# Altium schematic symbol library Schlib_Sword.SchLib: 68 symbols
Pins are listed as number, name and electrical type; pins without a type are passive.

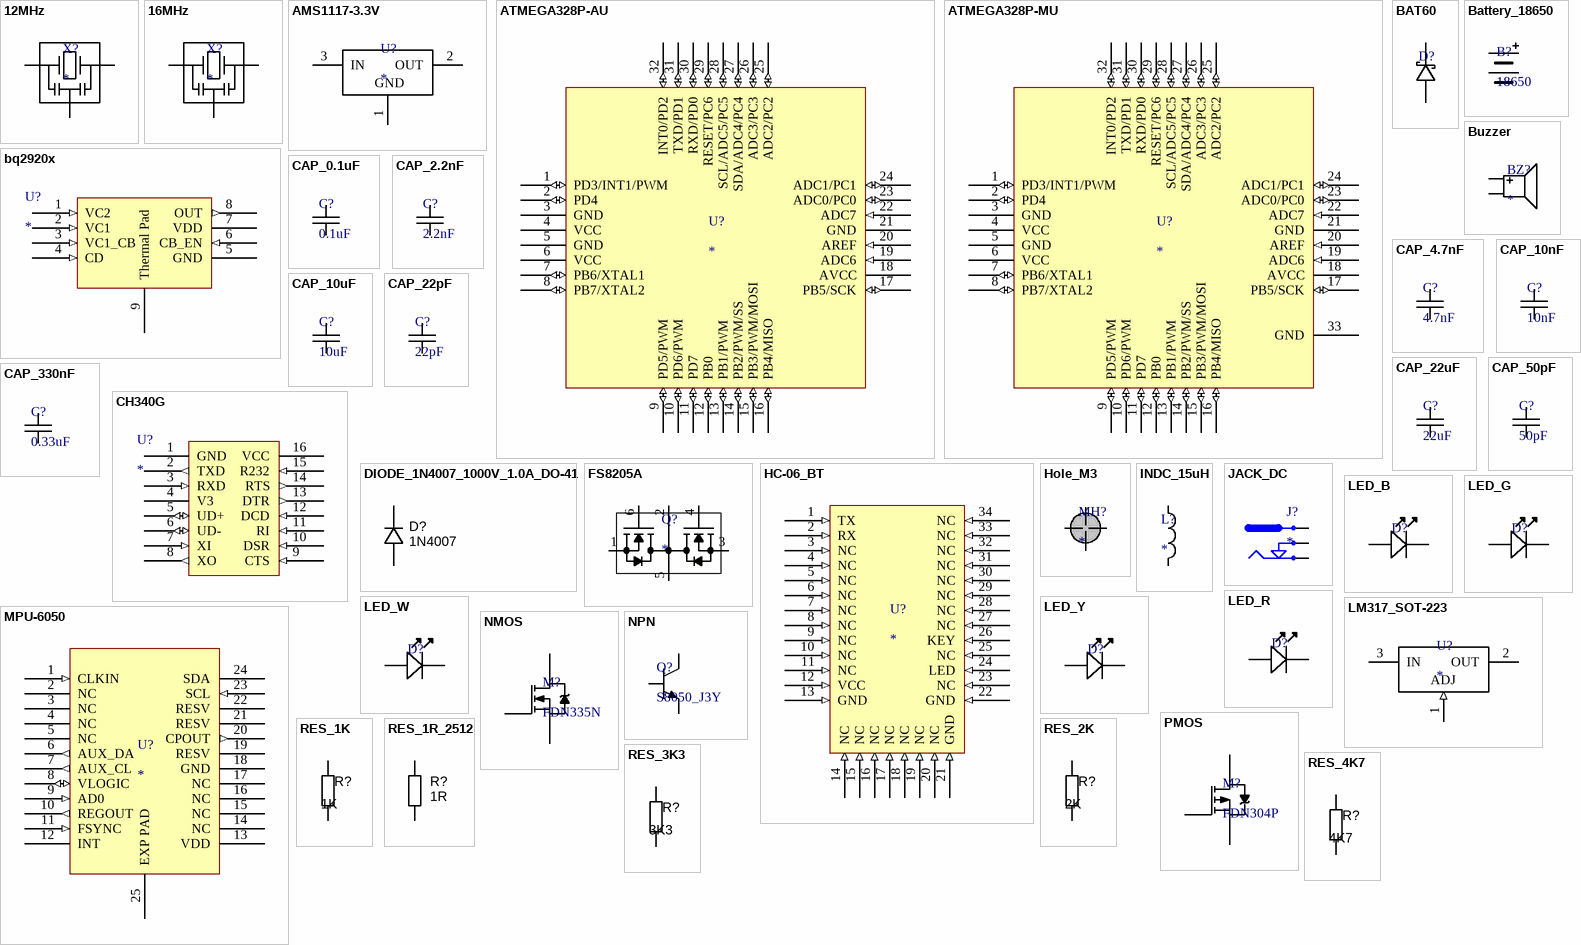
[diagram p0: symbols 12MHz to RES_4K7]

## 12MHz
designator X?
Crystal Oscillator
footprint XTAL_3.2x1.6
pins: 1 IN, 2 GND, 3 OUT

## 16MHz
designator X?
Crystal Oscillator
footprint XTAL_3.2x1.6
pins: 1 IN, 2 GND, 3 OUT

## AMS1117-3.3V
designator U?
footprint SOT223 (SOT223 /SC-73)
pins: 1 ADJ (power), 2 OUT (power), 3 IN (power)
text: GND

## ATMEGA328P-AU
designator U?
footprint ATMEGA328P-AU
pins: 1 PD3/INT1/PWM (io), 2 PD4 (io), 3 GND (power), 4 VCC (power), 5 GND (power), 6 VCC (power), 7 PB6/XTAL1 (io), 8 PB7/XTAL2 (io), 9 PD5/PWM (io), 10 PD6/PWM (io), 11 PD7 (io), 12 PB0 (io), 13 PB1/PWM (io), 14 PB2/PWM/SS (io), 15 PB3/PWM/MOSI (io), 16 PB4/MISO (io), 17 PB5/SCK (io), 18 AVCC (power), 19 ADC6 (in), 20 AREF (in), 21 GND (power), 22 ADC7 (in), 23 ADC0/PC0 (io), 24 ADC1/PC1 (io), 25 ADC2/PC2 (io), 26 ADC3/PC3 (io), 27 SDA/ADC4/PC4 (io), 28 SCL/ADC5/PC5 (io), 29 RESET/PC6 (io), 30 RXD/PD0 (io), 31 TXD/PD1 (io), 32 INT0/PD2 (io)

## ATMEGA328P-MU
designator U?
footprint ATMEGA328P-MU_32M1-A
pins: 1 PD3/INT1/PWM (io), 2 PD4 (io), 3 GND (power), 4 VCC (power), 5 GND (power), 6 VCC (power), 7 PB6/XTAL1 (io), 8 PB7/XTAL2 (io), 9 PD5/PWM (io), 10 PD6/PWM (io), 11 PD7 (io), 12 PB0 (io), 13 PB1/PWM (io), 14 PB2/PWM/SS (io), 15 PB3/PWM/MOSI (io), 16 PB4/MISO (io), 17 PB5/SCK (io), 18 AVCC (power), 19 ADC6 (in), 20 AREF (in), 21 GND (power), 22 ADC7 (in), 23 ADC0/PC0 (io), 24 ADC1/PC1 (io), 25 ADC2/PC2 (io), 26 ADC3/PC3 (io), 27 SDA/ADC4/PC4 (io), 28 SCL/ADC5/PC5 (io), 29 RESET/PC6 (io), 30 RXD/PD0 (io), 31 TXD/PD1 (io), 32 INT0/PD2 (io), 33 GND (power)

## BAT60
designator D?
Schottky Diode 3A, Vf~0.24V, Vr=10V
footprint SOD323 (SOD-323; 2 Leads; Body 1.8 x 1.35 mm, (LxW))
pins: A, K

## Battery_18650
designator B?, comment 18650

## bq2920x
designator U?
Automatic Cell Balance 2S Li-Ion Battery
footprint bq2920x
pins: 1 VC2 (in) "Sense voltage input for top cell", 2 VC1 (in) "Sense voltage input for bottom cell", 3 VC1_CB (in) "Cell balance input for bottom cell", 4 CD (in) "Connection to external capacitor for programmable delay time", 5 GND (power) "Ground pin", 6 CB_EN (in) "Cell balance enable", 7 VDD (power) "Power supply", 8 OUT (out) "Output", 9 Thermal Pad (power) "GND pin to be connected to the PWRPAD on the printed circuit board for proper operation"

## Buzzer
designator BZ?
Buzzer passive 5 VAC
footprint Buzzer
pins: 1 Positive, 2 Negative

## CAP_0.1uF
designator C?, comment 0.1uF
SMD 0805
footprint CAP_0805
pins: 1, 2

## CAP_2.2nF
designator C?, comment 2.2nF
SMD 0805
footprint CAP_0805
pins: 1, 2

## CAP_4.7nF
designator C?, comment 4.7nF
SMD 0805
footprint CAP_0805
pins: 1, 2

## CAP_10nF
designator C?, comment 10nF
SMD 0805
footprint CAP_0805
pins: 1, 2

## CAP_10uF
designator C?, comment 10uF
SMD 0805/1206
footprint CAP_0805
footprint CAP_1206
pins: 1, 2

## CAP_22pF
designator C?, comment 22pF
SMD 0805
footprint CAP_0805
pins: 1, 2

## CAP_22uF
designator C?, comment 22uF
SMD 1206
footprint CAP_1206
pins: 1, 2

## CAP_50pF
designator C?, comment 50pF
SMD 0805
footprint CAP_0805
pins: 1, 2

## CAP_330nF
designator C?, comment 0.33uF
SMD 0805
footprint CAP_0805
pins: 1, 2

## CH340G
designator U?
footprint CH340G
pins: 1 GND (power) "Ground reference of the chip.", 2 TXD (out) "UART data transmit output", 3 RXD (in) "UART data receive input.", 4 V3 (power) "Internal 3.3V reference fot USB physical layer. Decouple with a 4.7-20nF capacitor when in 5V operation, or tie to VCC when in 3.3V operation", 5 UD+ (io) "USB D+ signal.", 6 UD- (io) "UBS D- signal.", 7 XI (in) "Input of the crystal osctillator. Connect to the crystal resonator and load capacitors.", 8 XO (out) "Output of the crystal osctillator. Connect to the crystal resonator and load capacitors.", 9 CTS (in) "UART flow control signal Clear to Send", 10 DSR (in) "UART flow control signal Data Set Ready.", 11 RI (in) "UART flow control signal Ring In.", 12 DCD (in) "UART flow control signal Data Carrier Detect", 13 DTR (out) "UART flow control signal Data Terminal Ready.", 14 RTS (out) "UART flow control signal Request to Send", 15 R232 (in) "Auxiliary RS232 enable. Active high, internal pull down.", 16 VCC (power) "Supply rail for the chip."

## DIODE_1N4007_1000V_1.0A_DO-41
designator D?, comment 1N4007
Diode 1N4007 1A 1000V THD; Manufacturer 1: Diodes Inc; Manufacturer Part Number 1: 1N4007-T; Ratings: 100V; 1.5A; Diode Type: Standard; Value: Vf = 1.15V @ 1.5A (Max); SCDType: spec; Package / Case: DO-41; Mounting Type: Through Hole
footprint DO-41 (Diode, thru-hole)
pins: A, K

## FS8205A
designator Q?
NMOS, Drain-Connected, Imax 6A
footprint SOT23-6
pins: 1 S1, 2 D1, 3 D2, 4 G2, 5 D2, 6 G1

## HC-06_BT
designator U?
footprint HC-06_BT
pins: 1 TX (in), 2 RX (in), 3 NC (in), 4 NC (in), 5 NC (in), 6 NC (in), 7 NC (in), 8 NC (in), 9 NC (in), 10 NC (in), 11 NC (in), 12 VCC (in), 13 GND (in), 14 NC (in), 15 NC (in), 16 NC (in), 17 NC (in), 18 NC (in), 19 NC (in), 20 NC (in), 21 GND (in), 22 GND (in), 23 NC (in), 24 LED (in), 25 NC (in), 26 KEY (in), 27 NC (in), 28 NC (in), 29 NC (in), 30 NC (in), 31 NC (in), 32 NC (in), 33 NC (in), 34 NC (in)

## Hole_M3
designator MH?
footprint Hole_M3
pins: MH

## INDC_15uH
designator L?
15uH ±20% 4.2A 28.4mΩ SMD,12.5x12.5x6.5mm Power Inductors
footprint IND_15uH
pins: 1, 2

## JACK_DC
designator J?
footprint DC-004
pins: 1, 2, 3

## LED_B
designator D?
SMD_0805 3V
footprint LED_0805
pins: A, K

## LED_G
designator D?
SMD_0805 3V
footprint LED_0805
pins: A, K

## LED_R
designator D?
SMD_0805 2V
footprint LED_0805
pins: A, K

## LED_W
designator D?
SMD_0805 3V
footprint LED_0805
pins: A, K

## LED_Y
designator D?
SMD_0603 2.4V
footprint LED-0603-YELLOW
pins: A, K

## LM317_SOT-223
designator U?
Linear Voltage Regulator
footprint SOT223 (SOT223 /SC-73)
pins: 1 ADJ (in), 2 OUT (power), 3 IN (power)

## MPU-6050
designator U?
footprint MPU-6050
pins: 1 CLKIN (in) "Optional external reference clock input. Connect to GND if unused.", 2 NC "Not internally connected. May be used for PCB trace routing", 3 NC "Not internally connected. May be used for PCB trace routing", 4 NC "Not internally connected. May be used for PCB trace routing", 5 NC "Not internally connected. May be used for PCB trace routing", 6 AUX_DA (out) "I 2C master serial data, for connecting to external sensors", 7 AUX_CL (out) "I 2C Master serial clock, for connecting to external sensors", 8 VLOGIC (io) "Digital I/O supply voltage", 9 AD0 (in) "I 2C Slave Address LSB (AD0)", 10 REGOUT (out) "Regulator filter capacitor connection", 11 FSYNC (in) "Frame synchronization digital input. Connect to GND if unused.", 12 INT (oc) "Interrupt digital output (totem pole or open-drain)", 13 VDD (power) "Power supply voltage and Digital I/O supply voltage", 14 NC "Not internally connected. May be used for PCB trace routing", 15 NC "Not internally connected. May be used for PCB trace routing", 16 NC "Not internally connected. May be used for PCB trace routing", 17 NC "Not internally connected. May be used for PCB trace routing", 18 GND (power) "Power supply ground", 19 RESV "Reserved. Do not connect", 20 CPOUT (out) "Charge pump capacitor connection", 21 RESV "Reserved. Do not connect", 22 RESV "Reserved. Do not connect", 23 SCL (in) "2C serial clock (SCL)", 24 SDA (oc) "I 2C serial data (SDA)", 25 EXP PAD

## NMOS
designator M?, comment FDN335N
footprint SOT23_213
pins: 1 G, 2 S, 3 D

## NPN
designator Q?, comment S8050_J3Y
footprint SOT23_213
pins: 1 B, 2 E, 3 C

## PMOS
designator M?, comment FDN304P
footprint SOT23_213
pins: 1 G, 2 S, 3 D

## RES_1K
designator R?, comment 1K
Resistor SMD, 1206; Value: N/A
footprint RESC3216X70N (Chip Resistor, Body 3.2x1.6mm, EIA 1206, IPC Medium Density)
pins: 1, 2

## RES_1R_2512
designator R?  value 1R  (hidden comment: *)
Resistor SMD 1Ω ±5% 2W ±400ppm/℃ 2512; Ratings: 1W; SCDType: spec; Tolerance: ±5%; Material: Thick Film; Package / Case: 2512 (6332 metric)
footprint RESC6332X70N (Chip Resistor, Body 6.3x3.2mm, 2512, IPC Medium Density)
pins: 1, 2

## RES_2K
designator R?, comment 2K
Resistor SMD, 1206; Value: N/A
footprint RESC3216X70N (Chip Resistor, Body 3.2x1.6mm, EIA 1206, IPC Medium Density)
pins: 1, 2

## RES_3K3
designator R?, comment 3K3
Resistor SMD, 1206; Value: N/A
footprint RESC3216X70N (Chip Resistor, Body 3.2x1.6mm, EIA 1206, IPC Medium Density)
pins: 1, 2

## RES_4K7
designator R?, comment 4K7
Resistor SMD, 1206; Value: N/A
footprint RESC3216X70N (Chip Resistor, Body 3.2x1.6mm, EIA 1206, IPC Medium Density)
pins: 1, 2

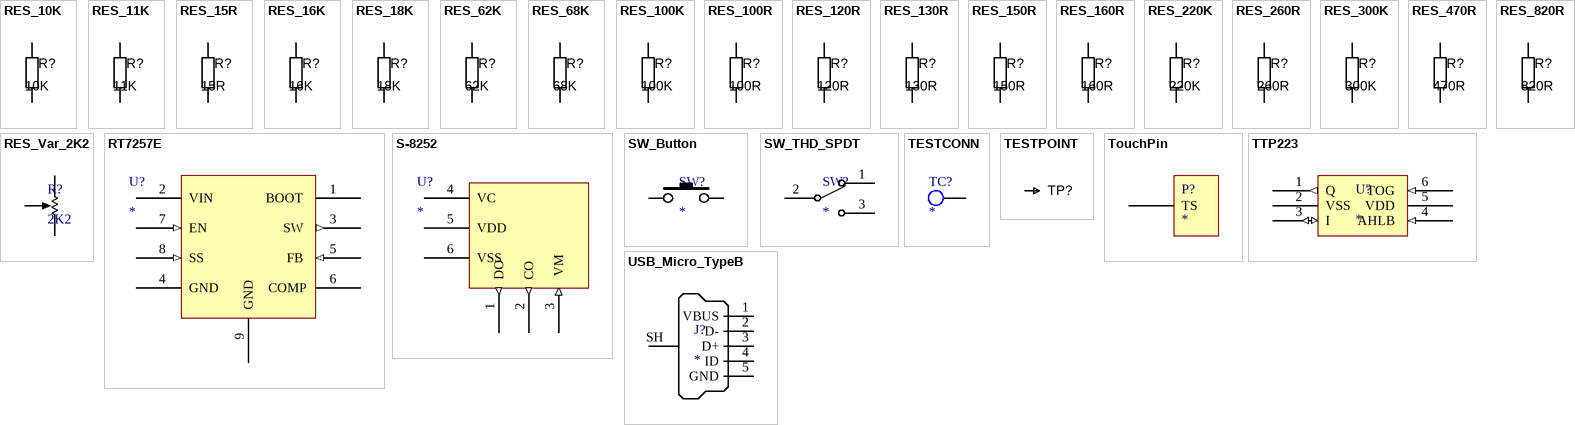
[diagram p1: symbols RES_10K to USB_Micro_TypeB]

## RES_10K
designator R?, comment 10K
Resistor SMD, 1206; Value: N/A
footprint RESC3216X70N (Chip Resistor, Body 3.2x1.6mm, EIA 1206, IPC Medium Density)
pins: 1, 2

## RES_11K
designator R?, comment 11K
Resistor SMD, 1206; Value: N/A
footprint RESC3216X70N (Chip Resistor, Body 3.2x1.6mm, EIA 1206, IPC Medium Density)
pins: 1, 2

## RES_15R
designator R?, comment 15R
Resistor SMD, 1206; Value: N/A
footprint RESC3216X70N (Chip Resistor, Body 3.2x1.6mm, EIA 1206, IPC Medium Density)
pins: 1, 2

## RES_16K
designator R?, comment 16K
Resistor SMD, 1206; Value: N/A
footprint RESC3216X70N (Chip Resistor, Body 3.2x1.6mm, EIA 1206, IPC Medium Density)
pins: 1, 2

## RES_18K
designator R?, comment 18K
Resistor SMD, 1206; Value: N/A
footprint RESC3216X70N (Chip Resistor, Body 3.2x1.6mm, EIA 1206, IPC Medium Density)
pins: 1, 2

## RES_62K
designator R?, comment 62K
Resistor SMD, 1206; Value: N/A
footprint RESC3216X70N (Chip Resistor, Body 3.2x1.6mm, EIA 1206, IPC Medium Density)
pins: 1, 2

## RES_68K
designator R?, comment 68K
Resistor SMD, 1206; Value: N/A
footprint RESC3216X70N (Chip Resistor, Body 3.2x1.6mm, EIA 1206, IPC Medium Density)
pins: 1, 2

## RES_100K
designator R?, comment 100K
Resistor SMD, 1206; Value: N/A
footprint RESC3216X70N (Chip Resistor, Body 3.2x1.6mm, EIA 1206, IPC Medium Density)
pins: 1, 2

## RES_100R
designator R?, comment 100R
Resistor SMD, 1206; Value: N/A
footprint RESC3216X70N (Chip Resistor, Body 3.2x1.6mm, EIA 1206, IPC Medium Density)
pins: 1, 2

## RES_120R
designator R?, comment 120R
Resistor SMD, 1206; Value: N/A
footprint RESC3216X70N (Chip Resistor, Body 3.2x1.6mm, EIA 1206, IPC Medium Density)
pins: 1, 2

## RES_130R
designator R?, comment 130R
Resistor SMD, 1206; Value: N/A
footprint RESC3216X70N (Chip Resistor, Body 3.2x1.6mm, EIA 1206, IPC Medium Density)
pins: 1, 2

## RES_150R
designator R?, comment 150R
Resistor SMD, 1206; Value: N/A
footprint RESC3216X70N (Chip Resistor, Body 3.2x1.6mm, EIA 1206, IPC Medium Density)
pins: 1, 2

## RES_160R
designator R?, comment 160R
Resistor SMD, 1206; Value: N/A
footprint RESC3216X70N (Chip Resistor, Body 3.2x1.6mm, EIA 1206, IPC Medium Density)
pins: 1, 2

## RES_220K
designator R?, comment 220K
Resistor SMD, 1206; Value: N/A
footprint RESC3216X70N (Chip Resistor, Body 3.2x1.6mm, EIA 1206, IPC Medium Density)
pins: 1, 2

## RES_260R
designator R?, comment 260R
Resistor SMD, 1206; Value: N/A
footprint RESC3216X70N (Chip Resistor, Body 3.2x1.6mm, EIA 1206, IPC Medium Density)
pins: 1, 2

## RES_300K
designator R?, comment 300K
Resistor SMD, 1206; Value: N/A
footprint RESC3216X70N (Chip Resistor, Body 3.2x1.6mm, EIA 1206, IPC Medium Density)
pins: 1, 2

## RES_470R
designator R?, comment 470R
Resistor SMD, 1206; Value: N/A
footprint RESC3216X70N (Chip Resistor, Body 3.2x1.6mm, EIA 1206, IPC Medium Density)
pins: 1, 2

## RES_820R
designator R?, comment 820R
Resistor SMD, 1206; Value: N/A
footprint RESC3216X70N (Chip Resistor, Body 3.2x1.6mm, EIA 1206, IPC Medium Density)
pins: 1, 2

## RES_Var_2K2
designator R?, comment 2K2
Resistor SMD Variable
footprint RES_VAR
pins: 1 CCW, 2 WIPER, 3 CW

## RT7257E
designator U?
DC/DC Buck Converter, 3A, 4.5V-17V Vin
footprint RT7257E
pins: 1 BOOT  "Bootstrap for High Side Gate Driver. Connect a 0.1μF or greater ceramic capacitor from BOOT to SW pins.", 2 VIN  (power) "Input Supply Voltage, 4.5V to 17V. Must bypass with a suitably large ceramic capacitor.", 3 SW  (out) "Switch Node. Connect this pin to an external L-C filter.", 4 GND  (power) "Ground.", 5 FB  (in) "Feedback Input. It is used to regulate the output of the converter to a set value via an internal resistive voltage divider.", 6 COMP, 7 EN  (in) "Enable Input. A logic high enables the converter; a logic low forces the RT7257E into shutdown mode reducing the supply current to less than 3μA. Attach this pin to VIN with a 100kΩ pull up resistor for automatic startup.", 8 SS  (in) "Soft-Start Control Input. SS controls the soft-start period. Connect a capacitor from SS to GND to set the soft-start period. A 0.1μF capacitor sets the soft-start period to 13.5ms.", 9 GND  (power) "Ground. The exposed pad must be soldered to a large PCB and connected to GND for maximum power dissipation."

## S-8252
designator U?
Battery protection IC for 2S battery pack
footprint SOT23-6
pins: 1 DO  (out) "Connection pin of discharge control FET gate (CMOS output)", 2 CO  (out) "Connection pin of charge control FET gate (CMOS output)", 3  VM  (in) "Voltage detection pin between VM pin and VSS pin (Overcurrent / charger detection pin)", 4 VC  (power) "Connection pin for negative voltage of battery 1 and connection pin for positive voltage of battery 2", 5 VDD  (power) "Connection pin for positive power supply input and connection pin for positive voltage of battery 1", 6 VSS  (power) "Connection pin for negative power supply input and connection pin for negative voltage of battery 2"

## SW_Button
designator SW?
footprint Button_4x4x1.5
pins: 1, 2

## SW_THD_SPDT
designator SW?
Switch 2 position
footprint 3P_header
pins: 1, 2, 3

## TESTCONN
designator TC?
footprint TP_15
pins: 1

## TESTPOINT
designator TP?  (value not drawn)  (no BOM)
SMD test pin
footprint TP-R20
pins: 1

## TouchPin
designator P?
footprint TouchPad
pins: 1 TS

## TTP223
designator U?
footprint TTP223-BA6
pins: 1 Q  (out) "CMOS output pin", 2 VSS  (power) "Negative power supply, ground", 3 I  (io) "Input sensor port", 4 AHLB  (in) "Output active high or low selection, 1=>Active low; 0(Default)=>Active high", 5 VDD  (power) "Positive power supply", 6 TOG  (in) "Output type option pin, 1=>Toggle mode; 0(Default)=>Direct mode"

## USB_Micro_TypeB
designator J?
footprint USB_Micro_TypeB
pins: 1 VBUS, 2 D-, 3 D+, 4 ID, 5 GND, SH Shell